# Altium footprint library PCB_Lib_MCU.PcbLib: 22 footprints (part 1 of 2)
Each footprint in its own frame and in the unit in brackets; x right, y up, seen from the top. Pads: shape width x height; smd on the part's side, far side on the other; paste and mask are expansions set on the pad; w line width, h text height; cw(c..) or ccw(c..) is an arc to the next point about the centre after c.
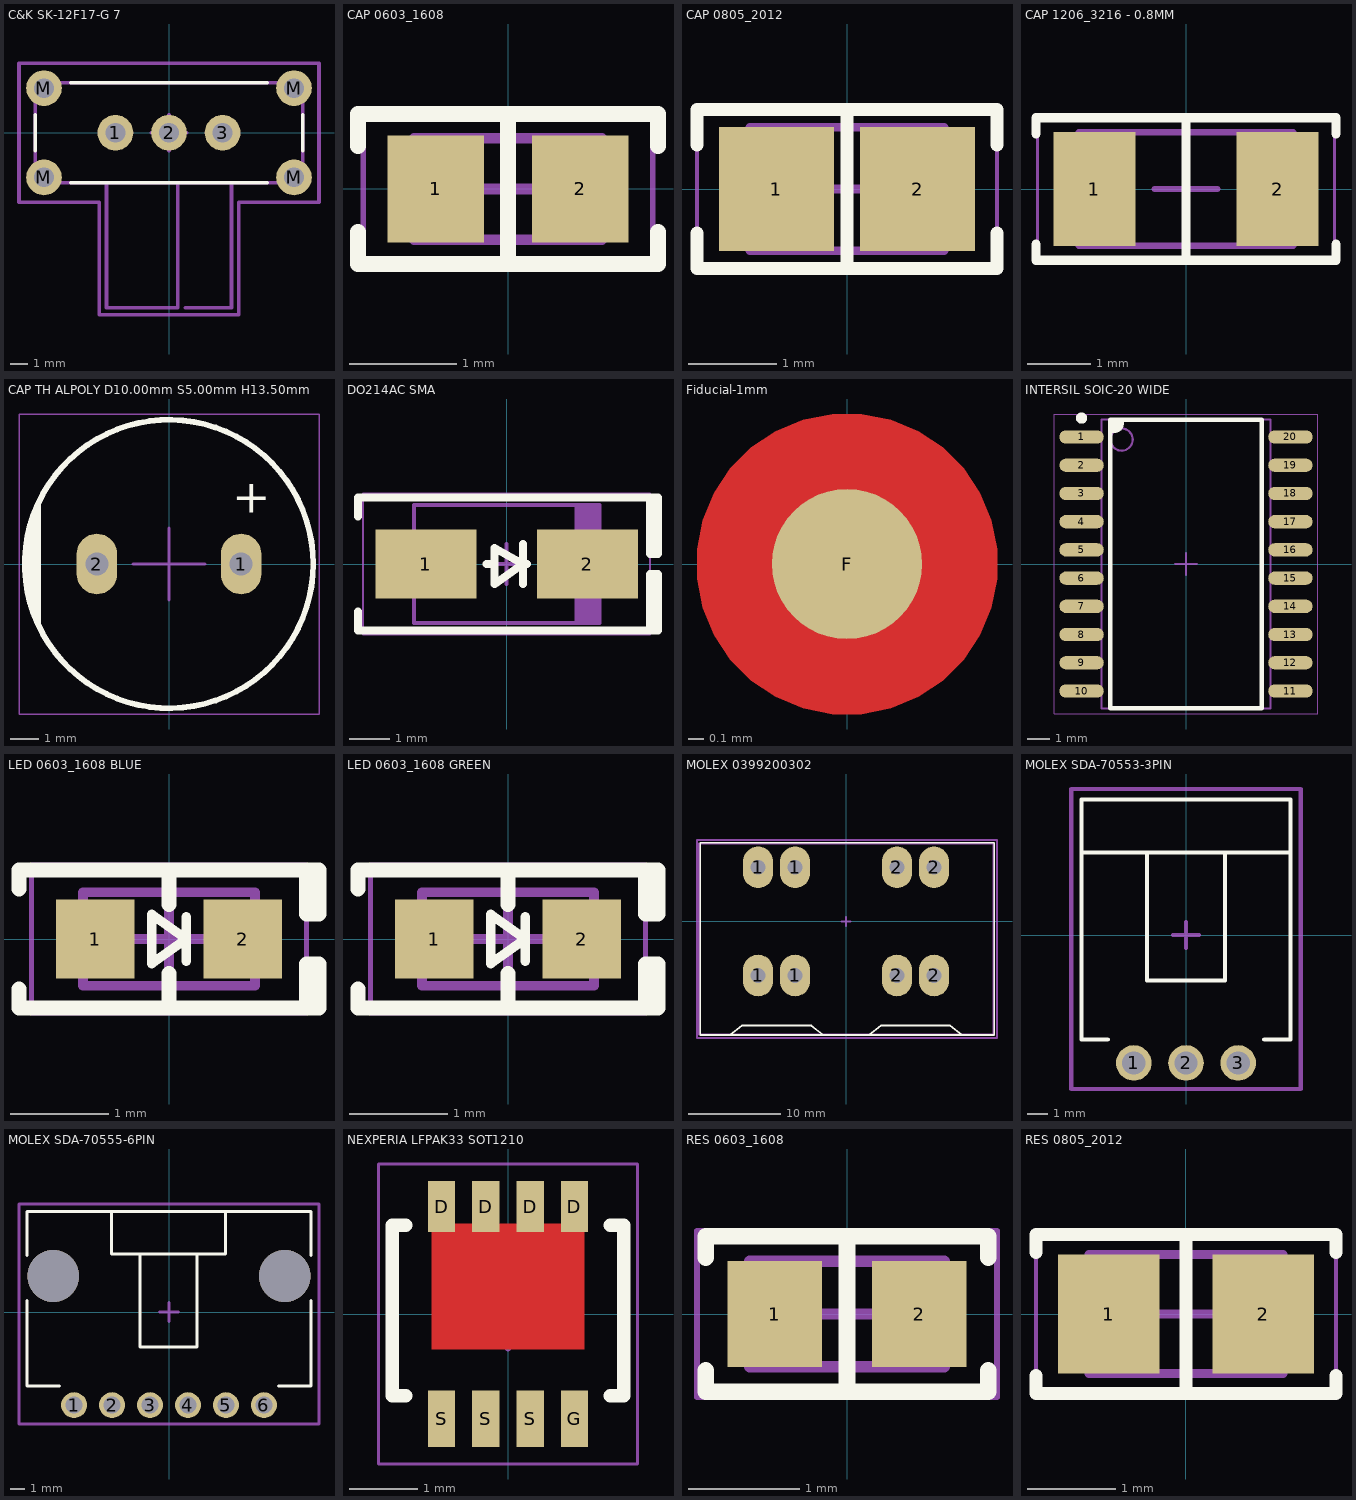
[diagram p0: the footprints below, top view; thin cyan lines are the x and y axes]

## C&K SK-12F17-G 7 [mm]
pads (7):
  round 2 hole 1.1: 1(-3,0) 2(0,0) 3(3,0) M(-7,-2.5) M(-7,2.5) M(7,-2.5) M(7,2.5)
Top Overlay:
  lines w0.2: -7.5,-1 -7.5,1 ; -5.5,-2.8 5.5,-2.8 ; -5.5,2.8 5.5,2.8 ; 7.5,-1 7.5,1
Mechanical 13:
  lines w0.2: -3.5,-2.8 -3.5,-9.8 0.5,-9.8 0.5,-2.8 ; 0.9,-9.8 3.5,-9.8 3.5,-2.8 ; -7.5,-2.8 7.5,-2.8 7.5,2.8 -7.5,2.8 -7.5,-2.8
Mechanical 15:
  lines w0.2: -1,0 1,0 ; 0,-1 0,1 ; -8.4,-3.9 -3.9,-3.9 -3.9,-10.2 3.9,-10.2 3.9,-3.9 8.4,-3.9 8.4,3.9 -8.4,3.9 -8.4,-3.9
3D body "C&K SK-12F17-G 7.step": height 8, standoff -3.3, extent -7.5,-9.8 7.5,2.8

## CAP 0603_1608 [mm]
pads (2):
  rect 0.9x1 smd: 1(-0.675,0) 2(0.675,0)
Top Overlay:
  lines w0.15: -1.4,-0.4 -1.4,-0.7 1.4,-0.7 1.4,-0.4 ; -1.4,0.4 -1.4,0.7 1.4,0.7 1.4,0.4 ; 0,-0.7 0,0.7
Mechanical 13:
  lines w0.1: -0.875,-0.475 0.875,-0.475 0.875,0.475 -0.875,0.475 -0.875,-0.475
Mechanical 15:
  lines w0.05: -1.35,-0.75 1.35,-0.75 1.35,0.75 -1.35,0.75 -1.35,-0.75
  lines w0.1: -0.475,0 0.475,0 ; 0,-0.475 0,0.475
3D body "0603 cap.STEP": height 0.82, standoff 0, extent -0.8,-0.412 0.8,0.412

## CAP 0805_2012 [mm]
pads (2):
  rect 1.3x1.4 smd: 1(-0.8,0) 2(0.8,0)
Top Overlay:
  lines w0.15: -1.7,-0.5 -1.7,-0.9 1.7,-0.9 1.7,-0.5 ; -1.7,0.5 -1.7,0.9 1.7,0.9 1.7,0.5 ; 0,-0.9 0,0.9
Mechanical 13:
  lines w0.1: -1.1,-0.7 1.1,-0.7 1.1,0.7 -1.1,0.7 -1.1,-0.7
Mechanical 15:
  lines w0.05: -1.7,-0.95 1.7,-0.95 1.7,0.95 -1.7,0.95 -1.7,-0.95
  lines w0.1: -0.5,0 0.5,0 ; 0,-0.5 0,0.5
3D body "0805 cap.STEP": height 1.26, standoff -0.02, extent -1,-0.637 1,0.637

## CAP 1206_3216 - 0.8MM [mm]
pads (2):
  rect 1.3x1.8 smd: 1(-1.45,0) 2(1.45,0)
Top Overlay:
  lines w0.15: -2.375,-0.875 -2.375,-1.125 2.375,-1.125 2.375,-0.875 ; -2.375,0.875 -2.375,1.125 2.375,1.125 2.375,0.875 ; 0,-1.125 0,1.125
Mechanical 13:
  lines w0.1: -1.7,-0.9 1.7,-0.9 1.7,0.9 -1.7,0.9 -1.7,-0.9
Mechanical 15:
  lines w0.05: -2.35,-1.15 2.35,-1.15 2.35,1.15 -2.35,1.15 -2.35,-1.15
  lines w0.1: -0.5,0 0.5,0 ; 0,-0.5 0,0.5
3D body "CAP 1206-0.8mm.STEP": height 0.8, standoff 0, extent -1.6,-0.8 1.6,0.8

## CAP TH ALPOLY D10.00mm S5.00mm H13.50mm [mm]
pads (2):
  oval 1.4x2.1 hole 0.8: 1(2.5,0) 2(-2.5,0)
Top Overlay:
  circle w0.2: c0,0 r5
  region: -4.532,-2.113 -4.647,-1.866 -4.822,-1.349 -4.941,-0.816 -5,-0.273 -5,0.273 -4.941,0.816 -4.822,1.349 -4.647,1.866 -4.532,2.113
  lines w0.2: -4.532,-2.113 cw(c0,0) -4.532,2.113 -4.532,-2.113
  text "+" at 2.2,1.4 h2
Mechanical 13:
  circle w0.1: c0,0 r5
  lines w0.1: -4.532,-2.113 -4.532,2.113
Mechanical 15:
  lines w0.05: -5.2,-5.2 -5.2,5.2 5.2,5.2 5.2,-5.2 -5.2,-5.2
  lines w0.1: -1.25,0 0,0 ; 0,-1.25 0,0 ; 0,1.25 0,0 ; 1.25,0 0,0
3D body "CAP TH ALPOLY D10.00mm S5.00mm H13.50mm.step": height 13.5, standoff -2.5, extent -5.007,-5 5,5

## DO214AC SMA [mm]
pads (2):
  rect 2.5x1.7 smd: 1(-2,0) 2(2,0)
Top Overlay:
  lines w0.2: -3.683,-1.175 -3.683,-1.651 3.75,-1.651 3.75,-0.254 3.556,-0.254 3.556,-1.651 ; -3.683,1.175 -3.683,1.651 3.75,1.651 3.75,0.254 3.556,0.254 3.556,1.651 ; -0.5,0 -0.3,0 ; 0.4,-0.5 0.4,0.5 ; 0.5,0 0.4,0 ; 0.4,0 -0.3,0.4 -0.3,-0.5 0.4,0
Mechanical 13:
  rectangle: 1.681,-1.46 2.3,1.46
  lines w0.1: -2.3,-1.46 -2.3,1.46 2.3,1.46 2.3,-1.46 -2.3,-1.46
Mechanical 15:
  lines w0.05: -3.556,-1.75 -3.556,1.75 3.556,1.75 3.556,-1.75 -3.556,-1.75
  lines w0.1: -0.5,0 0.5,0 ; 0,-0.5 0,0.5
3D body "SMA.STEP": height 2.4, standoff 0, extent -2.6,-1.375 2.6,1.375

## Fiducial-1mm [mm]
pads (1):
  round 1 smd paste-1 mask+0.5: F(0,0)
Top Layer:
  pour cut-out: -1,0 -1,0.098 -0.962,0.292 -0.886,0.474 -0.777,0.637 -0.637,0.777 -0.474,0.886 -0.292,0.962 -0.098,1 0,1 0.098,1 0.292,0.962 0.474,0.886 0.637,0.777 0.777,0.637 0.886,0.474 0.962,0.292 1,0.098 1,0 1,-0.098 0.962,-0.292 0.886,-0.474 0.777,-0.637 0.637,-0.777 0.474,-0.886 0.292,-0.962 0.098,-1 0,-1 -0.098,-1 -0.292,-0.962 -0.474,-0.886 -0.637,-0.777 -0.777,-0.637 -0.886,-0.474 -0.962,-0.292 -1,-0.098

## INTERSIL SOIC-20 WIDE [mm]
pads (20):
  oval 2x0.6 smd: 1(-4.7,5.715) 2(-4.7,4.445) 3(-4.7,3.175) 4(-4.7,1.905) 5(-4.7,0.635) 6(-4.7,-0.635) 7(-4.7,-1.905) 8(-4.7,-3.175) 9(-4.7,-4.445) 10(-4.7,-5.715) 11(4.7,-5.715) 12(4.7,-4.445) 13(4.7,-3.175) 14(4.7,-1.905) 15(4.7,-0.635) 16(4.7,0.635) 17(4.7,1.905) 18(4.7,3.175) 19(4.7,4.445) 20(4.7,5.715)
Top Overlay:
  circle w0.25: c-4.7,6.565 r0.125
  region: -3.4,6.5 -2.9,6.5 -2.9,6.3 -3.2,6 -3.4,6
  lines w0.2: -3.4,6 -3.2,6 ccw(c-3.2,6.3) -2.9,6.3 -2.9,6.5 ; -3.4,-6.5 -3.4,6.5 3.4,6.5 3.4,-6.5 -3.4,-6.5
Mechanical 13:
  circle w0.1: c-2.9,5.6 r0.5
  lines w0.1: -3.8,-6.5 -3.8,6.5 3.8,6.5 3.8,-6.5 -3.8,-6.5
Mechanical 15:
  lines w0.05: -5.925,-6.75 -5.925,6.75 5.925,6.75 5.925,-6.75 -5.925,-6.75
  lines w0.1: -0.5,0 0.5,0 ; 0,-0.5 0,0.5
3D body "SOIC-20 Wide.STEP": height 2.65, standoff 0, extent -5.164,-6.4 5.164,6.4

## LED 0603_1608 BLUE [mm]
pads (2):
  rect 0.8x0.8 smd: 1(-0.75,0) 2(0.75,0)
Top Overlay:
  lines w0.1: 0.175,-0.225 0.175,0 ; 0.175,0.225 0.175,0 ; 0.175,0 -0.175,0.25 -0.175,0 -0.175,-0.25 0.175,0
  lines w0.15: -1.524,-0.508 -1.524,-0.7 1.5,-0.7 ; -1.524,0.508 -1.524,0.7 1.5,0.7 ; 0,-0.7 0,-0.35 ; 0,0.35 0,0.7 ; 1.397,-0.7 1.524,-0.7 1.524,-0.254 1.397,-0.254 1.397,-0.7 ; 1.397,0.254 1.524,0.254 1.524,0.7 1.397,0.7 1.397,0.254
Mechanical 13:
  lines w0.1: -0.875,-0.475 -0.875,0.475 0.875,0.475 0.875,-0.475 -0.875,-0.475
Mechanical 15:
  lines w0.05: -1.397,-0.75 -1.397,0.75 1.397,0.75 1.397,-0.75 -1.397,-0.75
  lines w0.1: -0.475,0 0.475,0 ; 0,-0.475 0,0.475
3D body "LED 0603 Lens BLUE.STEP": height 0.53, standoff 0.18, extent -0.55,-0.4 0.55,0.4
3D body "LED 0603 Base BLUE.STEP": height 0.28, standoff 0, extent -0.8,-0.4 0.8,0.4

## LED 0603_1608 GREEN [mm]
pads (2):
  rect 0.8x0.8 smd: 1(-0.75,0) 2(0.75,0)
Top Overlay:
  lines w0.1: 0.175,-0.225 0.175,0 ; 0.175,0.225 0.175,0 ; 0.175,0 -0.175,0.25 -0.175,0 -0.175,-0.25 0.175,0
  lines w0.15: -1.524,-0.508 -1.524,-0.7 1.5,-0.7 ; -1.524,0.508 -1.524,0.7 1.5,0.7 ; 0,-0.7 0,-0.35 ; 0,0.35 0,0.7 ; 1.397,-0.7 1.397,-0.254 1.524,-0.254 1.524,-0.7 1.397,-0.7 ; 1.397,0.254 1.397,0.7 1.524,0.7 1.524,0.254 1.397,0.254
Mechanical 13:
  lines w0.1: -0.875,-0.475 0.875,-0.475 0.875,0.475 -0.875,0.475 -0.875,-0.475
Mechanical 15:
  lines w0.05: -1.397,-0.75 1.397,-0.75 1.397,0.75 -1.397,0.75 -1.397,-0.75
  lines w0.1: -0.475,0 0.475,0 ; 0,-0.475 0,0.475
3D body "LED 0603 Base GREEN.STEP": height 0.28, standoff 0, extent -0.8,-0.4 0.8,0.4
3D body "LED 0603 Lens GREEN.STEP": height 0.53, standoff 0.18, extent -0.55,-0.4 0.55,0.4

## MOLEX 0399200302 [mm]
pads (8):
  oval 3.25x4.5 hole 1.6: 1(-9.5,-5.84) 1(-9.5,5.84) 1(-5.5,-5.84) 1(-5.5,5.84) 2(5.5,-5.84) 2(5.5,5.84) 2(9.5,-5.84) 2(9.5,5.84)
Top Overlay:
  lines w0.2: -12.5,-12.25 -11.25,-11.25 -3.75,-11.25 -2.5,-12.25 ; 2.5,-12.25 3.75,-11.25 11.25,-11.25 12.5,-12.25 ; -15.75,-12.25 16,-12.25 16,8.5 -15.75,8.5 -15.75,-12.25
Mechanical 13:
  lines w0.2: -15.9,-12.2 -15.9,8.4 15.9,8.4 15.9,-12.2 -15.9,-12.2
Mechanical 15:
  lines w0.2: -0.5,0 0.5,0 ; 0,-0.5 0,0.5 ; -16.1,-12.6 16.3,-12.6 16.3,8.8 -16.1,8.8 -16.1,-12.6
3D body "Molex - 399200302.step": height 35.05, standoff -6.35, extent -15.875,-12.065 15.875,8.56

## MOLEX SDA-70553-3PIN [mm]
pads (3):
  round 1.73 hole 1.13: 1(-2.54,-6.223) 2(0,-6.223) 3(2.54,-6.223)
Top Overlay:
  lines w0.2: -5.08,4.019 5.08,4.019 ; -3.81,-5.08 -5.08,-5.08 -5.08,6.604 5.08,6.604 5.08,-5.08 3.81,-5.08 ; -1.905,4.019 -1.905,-2.219 1.905,-2.219 1.905,4.019
Mechanical 15:
  lines w0.2: -0.635,0 0.635,0 ; 0,-0.635 0,0.635 ; -5.588,-7.493 -4.953,-7.493 5.588,-7.493 5.588,7.112 -5.588,7.112 -5.588,-7.493
3D body "705530002.STEP": height 6.98, standoff -3.3, extent -5.08,-6.923 5.08,6.666

## MOLEX SDA-70555-6PIN [mm]
pads (6):
  round 1.73 hole 1.13: 1(-6.35,-6.223) 2(-3.81,-6.223) 3(-1.27,-6.223) 4(1.27,-6.223) 5(3.81,-6.223) 6(6.35,-6.223)
via 7.75,2.417 diameter 3.45 hole 3.45
via -7.75,2.417 diameter 3.45 hole 3.45
Top Overlay:
  lines w0.2: -9.51,0.777 -9.51,-4.953 -7.31,-4.953 ; -9.51,3.777 -9.51,6.731 9.51,6.731 9.51,3.777 ; -3.85,6.731 -3.85,3.892 3.77,3.892 3.77,6.731 ; -1.945,3.892 -1.945,-2.346 1.865,-2.346 1.865,3.892 ; 7.31,-4.953 9.51,-4.953 9.51,0.777
Mechanical 15:
  lines w0.2: -0.635,0 0.635,0 ; 0,-0.635 0,0.635 ; -10.033,-7.493 10.033,-7.493 10.033,7.239 -10.033,7.239 -10.033,-7.493
3D body "705550005.STEP": height 6.98, standoff -3.3, extent -9.525,-6.923 9.525,6.666

## NEXPERIA LFPAK33 SOT1210 [mm]
pads (8):
  rect 0.4x0.75 smd: D(-0.975,1.575) D(-0.325,1.575) D(0.325,1.575) D(0.975,1.575)
  rect 0.4x0.83 smd: G(0.975,-1.535) S(-0.975,-1.535) S(-0.325,-1.535) S(0.325,-1.535)
Top Layer:
  rectangle: -1.125,-0.52 1.125,1.33
Top Overlay:
  lines w0.2: -1.5,-1.2 -1.7,-1.2 -1.7,1.3 -1.5,1.3 ; 1.5,-1.2 1.7,-1.2 1.7,1.3 1.5,1.3
Top Paste:
  region: -0.309,-0.47 -0.309,0.04 -0.944,0.04 -0.944,-0.47
  region: 0.944,-0.47 0.944,0.04 0.309,0.04 0.309,-0.47
  region: -0.309,0.39 -0.309,0.9 -0.944,0.9 -0.944,0.39
  region: 0.944,0.39 0.944,0.9 0.309,0.9 0.309,0.39
Mechanical 15:
  lines w0.05: -1.9,-2.2 -1.9,2.2 1.9,2.2 1.9,-2.2 -1.9,-2.2
  lines w0.1: -0.5,0 0.5,0 ; 0,-0.5 0,0.5
3D body "Nexperia LFPAK33 SOT1210.step": height 0.9, standoff 0, extent -1.697,-1.753 1.697,1.647

## RES 0603_1608 [mm]
pads (2):
  rect 0.85x0.95 smd: 1(-0.65,0) 2(0.65,0)
Top Overlay:
  lines w0.15: -1.27,-0.508 -1.27,-0.7 1.27,-0.7 1.27,-0.508 ; -1.27,0.508 -1.27,0.7 1.27,0.7 1.27,0.508 ; 0,-0.7 0,0.7
Mechanical 13:
  lines w0.1: -0.875,-0.475 0.875,-0.475 0.875,0.475 -0.875,0.475 -0.875,-0.475
Mechanical 15:
  lines w0.05: -1.35,-0.75 1.35,-0.75 1.35,0.75 -1.35,0.75 -1.35,-0.75
  lines w0.1: -0.475,0 0.475,0 ; 0,-0.475 0,0.475
3D body "0603 resistor.STEP": height 0.45, standoff 0, extent -0.8,-0.4 0.8,0.4

## RES 0805_2012 [mm]
pads (2):
  rect 1.15x1.35 smd: 1(-0.875,0) 2(0.875,0)
Top Overlay:
  lines w0.15: -1.7,-0.7 -1.7,-0.9 1.7,-0.9 1.7,-0.7 ; -1.7,0.7 -1.7,0.9 1.7,0.9 1.7,0.7 ; 0,-0.9 0,0.9
Mechanical 13:
  lines w0.1: -1.1,-0.675 1.1,-0.675 1.1,0.675 -1.1,0.675 -1.1,-0.675
Mechanical 15:
  lines w0.05: -1.7,-0.95 1.7,-0.95 1.7,0.95 -1.7,0.95 -1.7,-0.95
  lines w0.1: -0.5,0 0.5,0 ; 0,-0.5 0,0.5
3D body "0805 resistor.STEP": height 0.6, standoff 0, extent -1,-0.625 1,0.625